# Altium footprint library AMPHENOL_10114830-10104LF.PcbLib: 1 footprints
Each footprint in its own frame and in the unit in brackets; x right, y up, seen from the top. Pads: shape width x height; smd on the part's side, far side on the other; paste and mask are expansions set on the pad; w line width, h text height; cw(c..) or ccw(c..) is an arc to the next point about the centre after c.
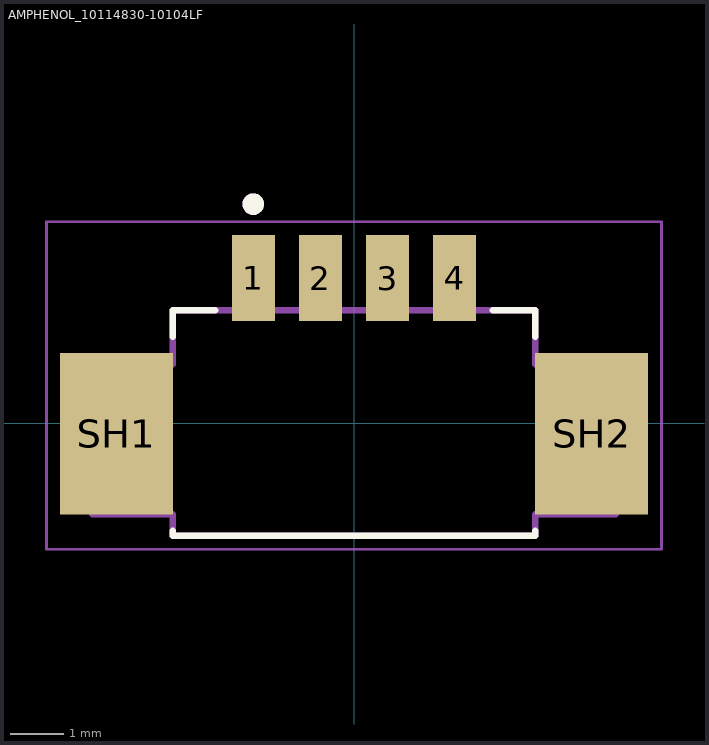
[diagram p0: the footprint, top view; thin cyan lines are the x and y axes]

## AMPHENOL_10114830-10104LF [mm]
height 3.4
pads (6):
  rect 0.8x1.6 smd: 1(-1.875,2.7) 2(-0.625,2.7) 3(0.625,2.7) 4(1.875,2.7)
  rect 2.1x3 smd: SH1(-4.425,-0.2) SH2(4.425,-0.2)
Top Overlay:
  circle w0.2: c-1.875,4.075 r0.1
  lines w0.127: -3.375,-2.014 -3.375,-2.1 3.375,-2.1 3.375,-2.014 ; -3.375,1.613 -3.375,2.1 -2.588,2.1 ; 2.588,2.1 3.375,2.1 3.375,1.613
Mechanical 13:
  circle w0.2: c-1.875,4.075 r0.1
  lines w0.127: -4.875,-1.7 -4.875,1.1 -3.375,1.1 -3.375,2.1 3.375,2.1 3.375,1.1 4.875,1.1 4.875,-1.7 3.375,-1.7 3.375,-2.1 -3.375,-2.1 -3.375,-1.7 -4.875,-1.7
Mechanical 15:
  lines w0.05: -5.725,-2.35 5.725,-2.35 5.725,3.75 -5.725,3.75 -5.725,-2.35
3D body "step_temp.STEP": height 3.4, standoff 0, extent -5.075,-2.1 5.075,3.2